# Altium footprint library MOD-E73-2G4M04S1BX.PcbLib: 1 footprints
Each footprint in its own frame and in the unit in brackets; x right, y up, seen from the top. Pads: shape width x height; smd on the part's side, far side on the other; paste and mask are expansions set on the pad; w line width, h text height; cw(c..) or ccw(c..) is an arc to the next point about the centre after c.
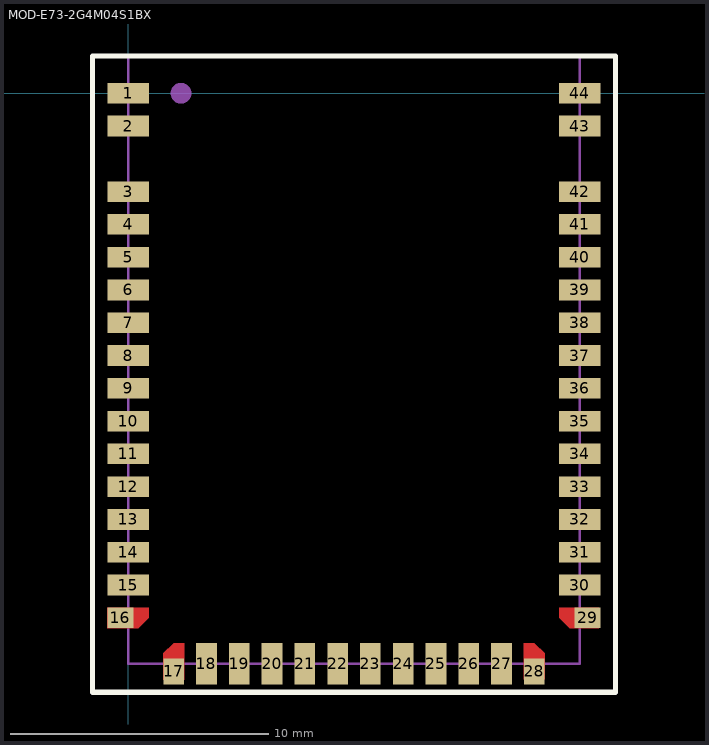
[diagram p0: the footprint, top view; thin cyan lines are the x and y axes]

## MOD-E73-2G4M04S1BX [mm]
pads (44):
  rect 1.6x0.8 smd: 1(0,0) 2(0,-1.27) 3(0,-3.81) 4(0,-5.08) 5(0,-6.35) 6(0,-7.62) 7(0,-8.89) 8(0,-10.16) 9(0,-11.43) 10(0,-12.7) 11(0,-13.97) 12(0,-15.24) 13(0,-16.51) 14(0,-17.78) 15(0,-19.05) 30(17.5,-19.05) 31(17.5,-17.78) 32(17.5,-16.51) 33(17.5,-15.24) 34(17.5,-13.97) 35(17.5,-12.7) 36(17.5,-11.43) 37(17.5,-10.16) 38(17.5,-8.89) 39(17.5,-7.62) 40(17.5,-6.35) 41(17.5,-5.08) 42(17.5,-3.81) 43(17.5,-1.27) 44(17.5,0)
  rect 1x0.8 smd: 16(-0.3,-20.32) 29(17.8,-20.32)
  rect 0.8x1 smd: 17(1.765,-22.395) 28(15.735,-22.395)
  rect 0.8x1.6 smd: 18(3.035,-22.095) 19(4.305,-22.095) 20(5.575,-22.095) 21(6.845,-22.095) 22(8.115,-22.095) 23(9.385,-22.095) 24(10.655,-22.095) 25(11.925,-22.095) 26(13.195,-22.095) 27(14.465,-22.095)
Top Layer:
  region: 18.225,-19.92 16.7,-19.92 16.7,-20.32 17.1,-20.72 18.225,-20.72
  region: 15.335,-22.695 15.335,-21.295 15.735,-21.295 16.135,-21.695 16.135,-22.695
  region: 2.165,-22.72 2.165,-21.295 1.765,-21.295 1.365,-21.695 1.365,-22.72
  region: -0.8,-19.92 0.8,-19.92 0.8,-20.32 0.4,-20.72 -0.8,-20.72
Top Overlay:
  lines w0.2: -1.375,-23.2 18.875,-23.2 18.875,1.45 -1.375,1.45 -1.375,-23.2
Top Assembly:
  circle w0.6: c2.05,0 r0.1
  lines w0.1: 0,-22.1 0,1.451 17.5,1.451 17.5,-22.1 0,-22.1
  text "'.Designator'" at 7.3,-10.8 h0.7